# Altium schematic symbol library Lib.SchLib: 27 symbols
Pins are listed as number, name and electrical type; pins without a type are passive.

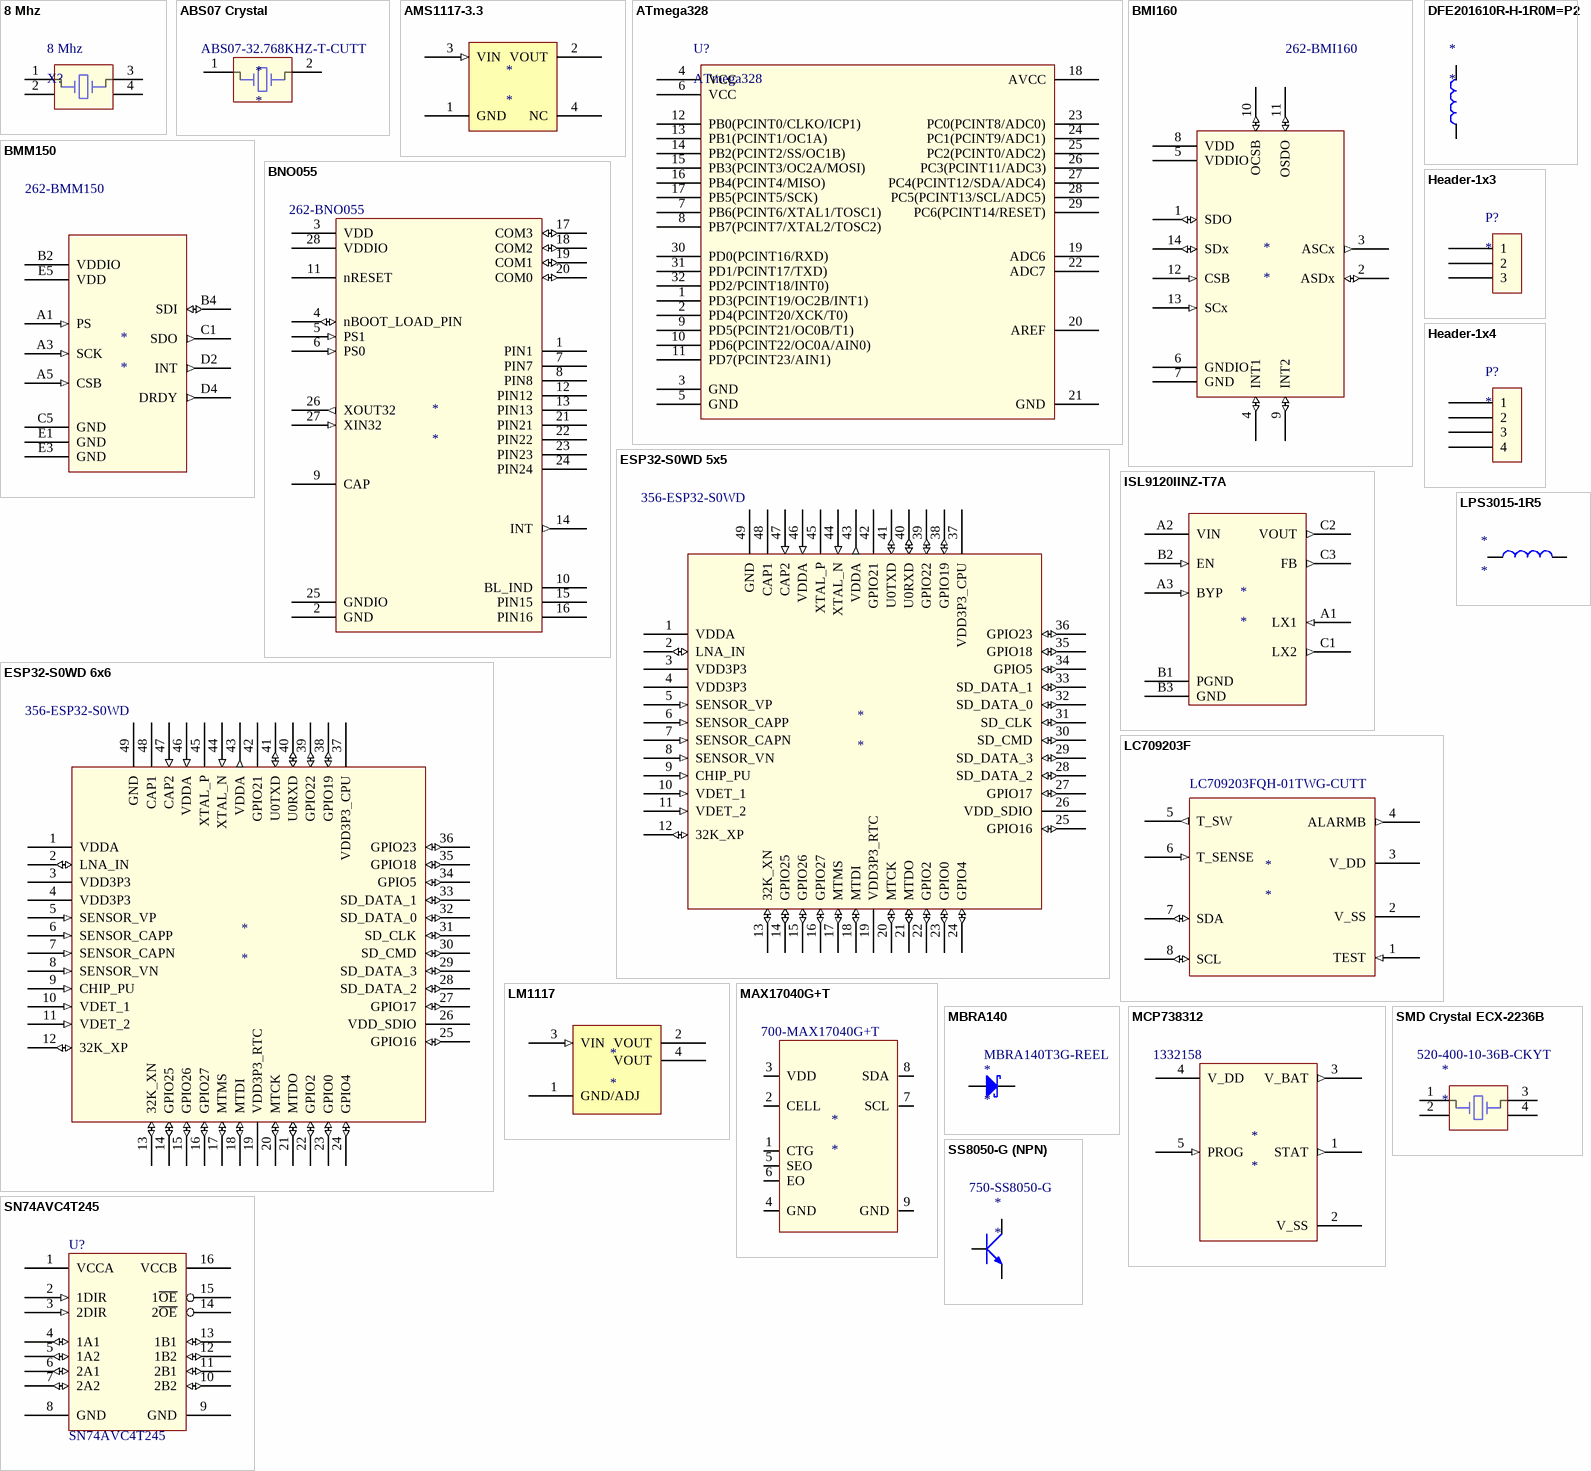
[diagram p0: symbols 8 Mhz to SS8050-G (NPN)]

## 8 Mhz
designator 8 Mhz, comment X?
8 MHz Crystal; Manufacturer ID: ABMM2-8.000MHZ-E2; Manufacturer: Abracon; Farnell: 1611803; Digikey: 535-9628-1-ND; Footprint/Size: XTAL6.0x3.6
footprint OSCCC600X360X120 (Oscillator 6.0 x 3.6mm)
pins: 1 OSC1, 2 GND, 3 OSC2, 4 GND

## ABS07 Crystal
designator *  Supplier Part Number 1: ABS07-32.768KHZ-T-CUTT
Supplier 1: Future Electronics
footprint ABS07 Crystal (32.768kHz SMD LOW PROFILE CRYSTA)
pins: 1 OSC1, 2 OSC2

## AMS1117-3.3
designator *
footprint AMS1117-3.3 (SOT223, 4-Leads, Body 6,50x7,00mm (avg), Pitch 2,30mm, IPC Medium Density)
pins: 1 GND (power), 2 VOUT (power), 3 VIN (in), 4 NC (power)

## ATmega328
designator U?
ATmega Microcontroller IC 8-Bit 20MHz 32KB (16K x 16) FLASH 32-VFQFN (5x5); Manufacturer ID: Microchip; Manufacturer: ATMEGA328PB-MU-ND; Digikey: ATMEGA328PB-MU; Mouser: 556-ATMEGA328PB-MU; Footprint/Size: 32-VFQFN (5x5)
footprint QFP80P900X900X120-32 (TQFP, 32-Leads, Body 7x7mm (max), Pitch 0,80mm, IPC High Density)
pins: 1 PD3(PCINT19/OC2B/INT1), 2 PD4(PCINT20/XCK/T0), 3 GND (power), 4 VCC (power), 5 GND (power), 6 VCC (power), 7 PB6(PCINT6/XTAL1/TOSC1), 8 PB7(PCINT7/XTAL2/TOSC2), 9 PD5(PCINT21/OC0B/T1), 10 PD6(PCINT22/OC0A/AIN0), 11 PD7(PCINT23/AIN1), 12 PB0(PCINT0/CLKO/ICP1), 13 PB1(PCINT1/OC1A), 14 PB2(PCINT2/SS/OC1B), 15 PB3(PCINT3/OC2A/MOSI), 16 PB4(PCINT4/MISO), 17 PB5(PCINT5/SCK), 18 AVCC (power), 19 ADC6, 20 AREF, 21 GND (power), 22 ADC7, 23 PC0(PCINT8/ADC0), 24 PC1(PCINT9/ADC1), 25 PC2(PCINT0/ADC2), 26 PC3(PCINT11/ADC3), 27 PC4(PCINT12/SDA/ADC4), 28 PC5(PCINT13/SCL/ADC5), 29 PC6(PCINT14/RESET), 30 PD0(PCINT16/RXD), 31 PD1/PCINT17/TXD), 32 PD2/PCINT18/INT0)

## BMI160
designator *  Supplier Part Number 1: 262-BMI160
Supplier 1: Mouser
footprint BMI160 (Small low power inertial measurement unit)
pins: 1 SDO (io), 2 ASDx (io), 3 ASCx (out), 4 INT1 (io), 5 VDDIO (power), 6 GNDIO (power), 7 GND (power), 8 VDD (power), 9 INT2 (io), 10 OCSB (io), 11 OSDO (io), 12 CSB (in), 13 SCx (in), 14 SDx (io)

## BMM150
designator *  Supplier Part Number 1: 262-BMM150
Supplier 1: Mouser
footprint BMM150 (Geomagnetic Sensor, BGA, 25-Leads, Body 1,56x1,56mmx0,60mm, Pitch 0,28mm)
pins: A1 PS (in) "Protocol Select", A3 SCK (in) "Protocol Select", A5 CSB (in) "Protocol Select", B2 VDDIO (power) "Protocol Select", B4 SDI (io) "Protocol Select", C1 SDO (out) "Protocol Select", C5 GND (power) "Protocol Select", D2 INT (out) "Protocol Select", D4 DRDY (out) "Protocol Select", E1 GND (power) "Protocol Select", E3 GND (power) "Protocol Select", E5 VDD (power) "Protocol Select"

## BNO055
designator *  Supplier Part Number 1: 262-BNO055
Supplier 1: Mouser
footprint BNO055 (LGA, 28-Leads, Body 5,22x3,83mmx1,18mm, Pitch 0,50mm)
pins: 1 PIN1, 2 GND (power), 3 VDD (power), 4 nBOOT_LOAD_PIN (io), 5 PS1 (in), 6 PS0 (in), 7 PIN7, 8 PIN8, 9 CAP, 10 BL_IND, 11 nRESET, 12 PIN12, 13 PIN13, 14 INT (out), 15 PIN15 (power), 16 PIN16 (power), 17 COM3 (io), 18 COM2 (io), 19 COM1 (io), 20 COM0 (io), 21 PIN21, 22 PIN22, 23 PIN23, 24 PIN24, 25 GNDIO (power), 26 XOUT32 (out), 27 XIN32 (in), 28 VDDIO (power)

## DFE201610R-H-1R0M=P2
designator *
footprint DFE201610R-H-1R0M=P2 smaller Pads (Chip Inductor, 2-Leads, Body 2,00x1,60mm, IPC Medium Density)
pins: 1, 2

## ESP32-S0WD 5x5
designator *  Supplier Part Number 1: 356-ESP32-S0WD
Supplier 1: Mouser
footprint ESP32-S0WD 5x5 (QFN, 48-Leads, Body 5,00x5,00mm, Pitch 0,35mm, Thermal Pad 3,70x3,70mm, IPC High Density)
pins: 1 VDDA (power), 2 LNA_IN (io), 3 VDD3P3 (power), 4 VDD3P3 (power), 5 SENSOR_VP (in), 6 SENSOR_CAPP (in), 7 SENSOR_CAPN (in), 8 SENSOR_VN (in), 9 CHIP_PU (in), 10 VDET_1 (in), 11 VDET_2 (in), 12 32K_XP (io), 13 32K_XN (io), 14 GPIO25 (io), 15 GPIO26 (io), 16 GPIO27 (io), 17 MTMS (io), 18 MTDI (io), 19 VDD3P3_RTC (power), 20 MTCK (io), 21 MTDO (io), 22 GPIO2 (io), 23 GPIO0 (io), 24 GPIO4 (io), 25 GPIO16 (io), 26 VDD_SDIO (power), 27 GPIO17 (io), 28 SD_DATA_2 (io), 29 SD_DATA_3 (io), 30 SD_CMD (io), 31 SD_CLK (io), 32 SD_DATA_0 (io), 33 SD_DATA_1 (io), 34 GPIO5 (io), 35 GPIO18 (io), 36 GPIO23 (io), 37 VDD3P3_CPU (power), 38 GPIO19 (io), 39 GPIO22 (io), 40 U0RXD (io), 41 U0TXD (io), 42 GPIO21 (power), 43 VDDA (out), 44 XTAL_N (in), 45 XTAL_P (power), 46 VDDA (in), 47 CAP2 (in), 48 CAP1 (power), 49 GND (power)

## ESP32-S0WD 6x6
designator *  Supplier Part Number 1: 356-ESP32-S0WD
Supplier 1: Mouser
footprint ESP32-S0WD (QFN, 48-Leads, Body 6,00x6,00mm, Pitch 0,40mm, Thermal Pad 4,30x4,30mm, IPC Medium Density)
pins: 1 VDDA (power), 2 LNA_IN (io), 3 VDD3P3 (power), 4 VDD3P3 (power), 5 SENSOR_VP (in), 6 SENSOR_CAPP (in), 7 SENSOR_CAPN (in), 8 SENSOR_VN (in), 9 CHIP_PU (in), 10 VDET_1 (in), 11 VDET_2 (in), 12 32K_XP (io), 13 32K_XN (io), 14 GPIO25 (io), 15 GPIO26 (io), 16 GPIO27 (io), 17 MTMS (io), 18 MTDI (io), 19 VDD3P3_RTC (power), 20 MTCK (io), 21 MTDO (io), 22 GPIO2 (io), 23 GPIO0 (io), 24 GPIO4 (io), 25 GPIO16 (io), 26 VDD_SDIO (power), 27 GPIO17 (io), 28 SD_DATA_2 (io), 29 SD_DATA_3 (io), 30 SD_CMD (io), 31 SD_CLK (io), 32 SD_DATA_0 (io), 33 SD_DATA_1 (io), 34 GPIO5 (io), 35 GPIO18 (io), 36 GPIO23 (io), 37 VDD3P3_CPU (power), 38 GPIO19 (io), 39 GPIO22 (io), 40 U0RXD (io), 41 U0TXD (io), 42 GPIO21 (power), 43 VDDA (out), 44 XTAL_N (in), 45 XTAL_P (power), 46 VDDA (in), 47 CAP2 (in), 48 CAP1 (power), 49 GND (power)

## Header-1x3
designator P?
footprint GARRY_STL1-XXXXGXX-3
pins: 1, 2, 3

## Header-1x4
designator P?
footprint GARRY_STL1-XXXXGXX-4
pins: 1, 2, 3, 4

## ISL9120IINZ-T7A
designator *
3.3 V Buck-Boost-Converter
footprint ISL9120IINZ-T 3.3 Buck-Boost-Converter (BGA, 9-Leads, Body 1,38x1,38mmx0,50mm, Pitch 0,40mm)
pins: A1 LX1 (in) "Inductor connection, input side.", A2 VIN (power), A3 BYP (in) "Forced bypass mode enable pin. Logic high for forced bypass mode operation. Logic low for buck-boost mode operation. Do not leave floating.", B1 PGND (power) "Power ground for high switching current.", B2 EN (in) "Logic input, drive HIGH to enable device. Do not leave floating.", B3 GND (power) "Analog ground pin.", C1 LX2 (out) "Inductor connection, output side.", C2 VOUT (out) "Buck-boost output. Connect a 22µF or 47µF capacitor to PGND.", C3 FB (out) "Voltage feedback pin, connect directly to VOUT pin for fixed output version."

## LC709203F
designator *  Supplier Part Number 1: LC709203FQH-01TWG-CUTT
Supplier 1: Future Electronics
footprint LC709203F (PQFN, 8-Leads, Body 4,00x3,00mm, Pitch 0,65mm, Thermal Pad 2,40x1,80mm, IPC Medium Density)
pins: 1 TEST (in), 2 V_SS, 3 V_DD, 4 ALARMB (out), 5 T_SW (out), 6 T_SENSE (in), 7 SDA (io), 8 SCL (io)

## LM1117
designator *
footprint LM117 (SOT223, 4-Leads, Body 6,50x7,00mm (avg), Pitch 2,30mm, IPC Medium Density)
pins: 1 GND/ADJ (power), 2 VOUT (power), 3 VIN (in), 4 VOUT (power)

## LPS3015-1R5
designator *
footprint LPS3015 (Inductor 1u5H)
pins: 1, 2

## MAX17040G+T
designator *  Supplier Part Number 1: 700-MAX17040G+T
Supplier 1: Mouser
footprint MAX17040G+T (Battery Management IC)
pins: 1 CTG, 2 CELL, 3 VDD, 4 GND, 5 SEO, 6 EO, 7 SCL (io), 8 SDA (io), 9 GND

## MBRA140
designator *  Supplier Part Number 1: MBRA140T3G-REEL
Supplier 1: Future Electronics
footprint MBRA140 (Molded Diode, 2-Leads, Body 4,31x2,60mm, IPC Medium Density)
pins: 1, 2

## MCP738312
designator *  Supplier Part Number 1: 1332158
Supplier 1: Farnell
footprint MCP738312
pins: 1 STAT (out) "Charge Status Output", 2 V_SS "Battery Management 0V Reference", 3 V_BAT (out) "Battery Charge Control Output", 4 V_DD (power) "Battery Management Inut Supply", 5 PROG (in) "Current Regulation Set"

## SMD Crystal ECX-2236B
designator *  Supplier Part Number 1: 520-400-10-36B-CKYT
Supplier 1: Mouser
footprint SMD Crystal ECX-2236B (40MHz 10ppm)
pins: 1 OSC1, 2 GND, 3 OSC2, 4 GND

## SN74AVC4T245
designator U?
4-BIT DUAL-SUPPLY BUS TRANSCEIVER; Manufacturer: TI; Manufacturer ID: SN74AVC4T245PWR; Mosuer: 595-SN74AVC4T245PWR; Digikey: 296-18056-1-ND; Footprint/Size: 16-TSSOP
footprint SOP40P640X120-16 (TVSOP, 16-Leads, Body 3,6x4,4mm (max), Pitch 0,40mm, IPC High Density)
pins: 1 VCCA (power), 2 1DIR (in), 3 2DIR (in), 4 1A1 (io), 5 1A2 (io), 6 2A1 (io), 7 2A2 (io), 8 GND (power), 9 GND (power), 10 2B2 (io), 11 2B1 (io), 12 1B2 (io), 13 1B1 (io), 14 2~{OE}, 15 1~{OE}, 16 VCCB (power)

## SS8050-G (NPN)
designator *  Supplier Part Number 1: 750-SS8050-G
Supplier 1: Mouser
footprint SS8050-G (NPN) (SOT23, 3-Leads, Body 2,90x2,45mm, Pitch 0,95mm, IPC Medium Density)
pins: 1 Base, 2 Emitter, 3 Collector

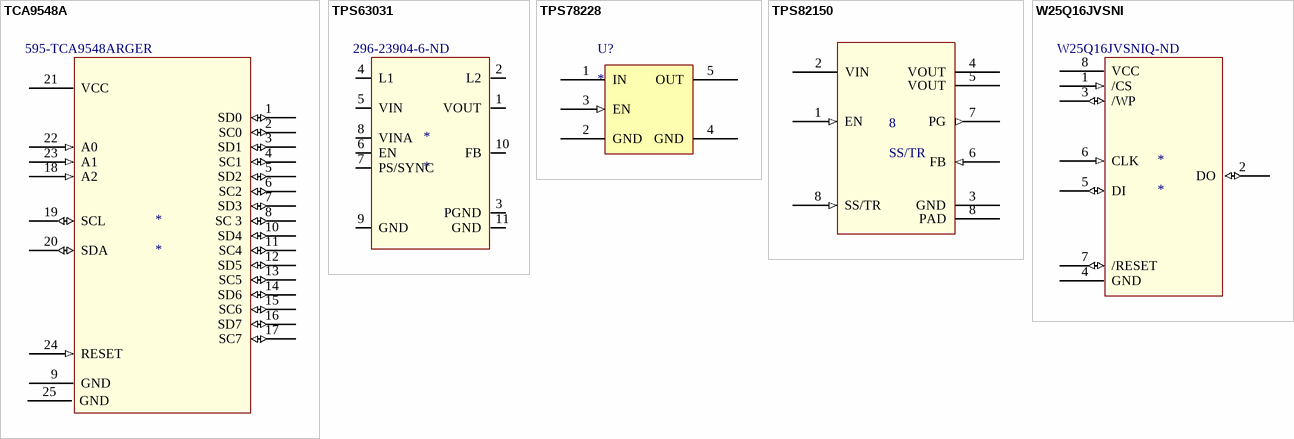
[diagram p1: symbols TCA9548A to W25Q16JVSNI]

## TCA9548A
designator *  Supplier Part Number 1: 595-TCA9548ARGER
Supplier 1: Mouser
footprint TCA9548A-Q1 (QFN, 24-Leads, Body 4,00x4,00mm, Pitch 0,50mm, Thermal Pad 2,70x2,70mm, IPC Medium Density)
pins: 1 SD0 (io), 2 SC0 (io), 3 SD1 (io), 4 SC1 (io), 5 SD2 (io), 6 SC2 (io), 7 SD3 (io), 8 SC 3 (io), 9 GND (power), 10 SD4 (io), 11 SC4 (io), 12 SD5 (io), 13 SC5 (io), 14 SD6 (io), 15 SC6 (io), 16 SD7 (io), 17 SC7 (io), 18 A2 (in), 19 SCL (io), 20 SDA (io), 21 VCC (power), 22 A0 (in), 23 A1 (in), 24 RESET (in), 25 GND

## TPS63031
designator *  Supplier Part Number 1: 296-23904-6-ND
Supplier 1: Digi-Key
footprint TPS63031 (High Efficient Single Inductor Buck-Boost Converter with 1-A Switches)
pins: 1 VOUT, 2 L2, 3 PGND, 4 L1, 5 VIN, 6 EN, 7 PS/SYNC, 8 VINA, 9 GND, 10 FB, 11 GND

## TPS78228
designator U?
2.8V LDO 150mA Low Dropout; Manufacturer ID: TPS78228DDCR; Manufacturer: Texas Instruments; Digikey: 296-23826-1-ND; Footprint/Size: SOT-23-5; Mouser: 595-TPS78228DDCR
footprint SOT95P280X110-5 (SOT23, 5-Leads, Body 3,0x3,0mm (max), Pitch 0,95mm, IPC High Density)
pins: 1 IN (power), 2 GND (power), 3 EN (in), 4 GND (power), 5 OUT

## TPS82150
designator 8, comment SS/TR
footprint TPS82150 (PSON, 8-Leads, Body 3,00x2,80mm, Pitch 0,65mm, Thermal Pad 1,90x1,08mm, IPC Medium Density)
pins: 1 EN (in), 2 VIN (power) "Battery Management Inut Supply", 3 GND (power) "Charge Status Output", 4 VOUT (power) "Battery Charge Control Output", 5 VOUT (power) "Current Regulation Set", 6 FB (in), 7 PG (out) "Battery Management 0V Reference", 8 SS/TR (in), 8 PAD (power)

## W25Q16JVSNI
designator *  Supplier Part Number 1: W25Q16JVSNIQ-ND
Supplier 1: Digi-Key
footprint W25Q16JVSNI (16M-bit, 2.7V-3.6V SOIC 150-mil)
pins: 1 /CS (in) "Battery Management Inut Supply", 2 DO (io) "Battery Management Inut Supply", 3 /WP (io) "Battery Management Inut Supply", 4 GND "Battery Management Inut Supply", 5 DI (io) "Battery Management Inut Supply", 6 CLK (in) "Battery Management Inut Supply", 7 /RESET (io) "Battery Management Inut Supply", 8 VCC "Battery Management Inut Supply"